# Altium schematic symbol library MEM2080-00-128-00-A.SchLib: 1 symbol
Pins are listed as number, name and electrical type; pins without a type are passive.

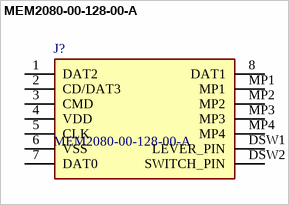
[diagram p0: symbol MEM2080-00-128-00-A]

## MEM2080-00-128-00-A
designator J?
Memory Card Connectors Micro SD, Push Push, SMT, Card Entry Normal, 1.28 mm profile; Manufacturer_Name: GCT (GLOBAL CONNECTOR TECHNOLOGY); Geometry.Height: 1.48mm; Mouser Part Number: 640-MEM2080-0012800A; Mouser Price/Stock: https://www.mouser.co.uk/ProductDetail/GCT/MEM2080-00-128-00-A?qs=vvQtp7zwQdPJXzpf1SnYug%3D%3D; Manufacturer_Part_Number: MEM2080-00-128-00-A; Datasheet Link: https://gct.co/files/drawings/mem2080.pdf?v=a9dd5643-7d1c-4e6b-bf46-1b82bcb8595f
footprint MEM20800012800A
pins: 1 DAT2, 2 CD/DAT3, 3 CMD, 4 VDD, 5 CLK, 6 VSS, 7 DAT0, 8 DAT1, DSW1 LEVER_PIN, DSW2 SWITCH_PIN, MP1, MP2, MP3, MP4